# EAGLE library part MC68000P (library untitled)
Low Cost 32-Bit Microprocessor Including EC, HC, and SEC
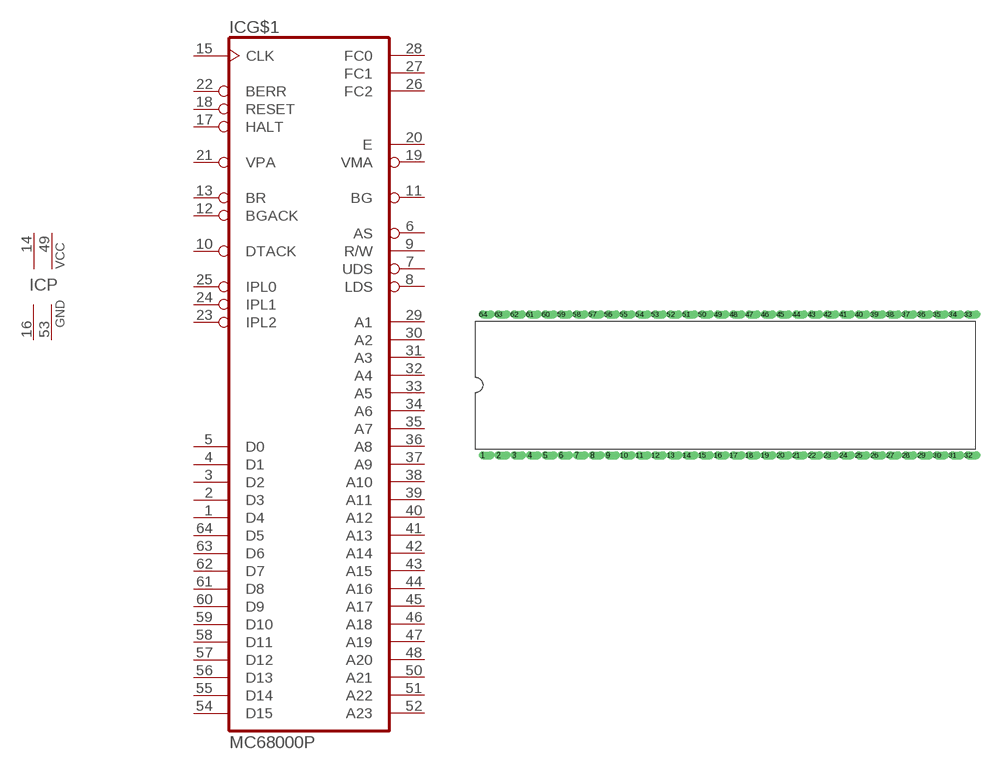
[diagram p1: symbol with the pads of DIL64; footprint DIL64]

Designator prefix IC; gates G$1=68000 P=2PWR2GND

## MC68000P  [DIL64]
1  G$1:D4
2  G$1:D3
3  G$1:D2
4  G$1:D1
5  G$1:D0
6  G$1:AS  out
7  G$1:UDS  out
8  G$1:LDS  out
9  G$1:R/W  out
10  G$1:DTACK  in
11  G$1:BG  out
12  G$1:BGACK  in
13  G$1:BR  in
14  P:VCC  pwr
15  G$1:CLK  in
16  P:GND  pwr
17  G$1:HALT
18  G$1:RESET
19  G$1:VMA  out
20  G$1:E  out
21  G$1:VPA  in
22  G$1:BERR  in
23  G$1:IPL2  in
24  G$1:IPL1  in
25  G$1:IPL0  in
26  G$1:FC2  out
27  G$1:FC1  out
28  G$1:FC0  out
29  G$1:A1  out
30  G$1:A2  out
31  G$1:A3  out
32  G$1:A4  out
33  G$1:A5  out
34  G$1:A6  out
35  G$1:A7  out
36  G$1:A8  out
37  G$1:A9  out
38  G$1:A10  out
39  G$1:A11  out
40  G$1:A12  out
41  G$1:A13  out
42  G$1:A14  out
43  G$1:A15  out
44  G$1:A16  out
45  G$1:A17  out
46  G$1:A18  out
47  G$1:A19  out
48  G$1:A20  out
49  P:VCC  pwr
50  G$1:A21  out
51  G$1:A22  out
52  G$1:A23  out
53  P:GND  pwr
54  G$1:D15
55  G$1:D14
56  G$1:D13
57  G$1:D12
58  G$1:D11
59  G$1:D10
60  G$1:D9
61  G$1:D8
62  G$1:D7
63  G$1:D6
64  G$1:D5

## Footprint DIL64 (pad centres in mm)
drill 0.813 offset: 1 -39.37,-11.43; 2 -36.83,-11.43; 3 -34.29,-11.43; 4 -31.75,-11.43; 5 -29.21,-11.43; 6 -26.67,-11.43; 7 -24.13,-11.43; 8 -21.59,-11.43; 9 -19.05,-11.43; 10 -16.51,-11.43; 11 -13.97,-11.43; 12 -11.43,-11.43; 13 -8.89,-11.43; 14 -6.35,-11.43; 15 -3.81,-11.43; 16 -1.27,-11.43; 17 1.27,-11.43; 18 3.81,-11.43; 19 6.35,-11.43; 20 8.89,-11.43; 21 11.43,-11.43; 22 13.97,-11.43; 23 16.51,-11.43; 24 19.05,-11.43; 25 21.59,-11.43; 26 24.13,-11.43; 27 26.67,-11.43; 28 29.21,-11.43; 29 31.75,-11.43; 30 34.29,-11.43; 31 36.83,-11.43; 32 39.37,-11.43; 33 39.37,11.43; 34 36.83,11.43; 35 34.29,11.43; 36 31.75,11.43; 37 29.21,11.43; 38 26.67,11.43; 39 24.13,11.43; 40 21.59,11.43; 41 19.05,11.43; 42 16.51,11.43; 43 13.97,11.43; 44 11.43,11.43; 45 8.89,11.43; 46 6.35,11.43; 47 3.81,11.43; 48 1.27,11.43; 49 -1.27,11.43; 50 -3.81,11.43; 51 -6.35,11.43; 52 -8.89,11.43; 53 -11.43,11.43; 54 -13.97,11.43; 55 -16.51,11.43; 56 -19.05,11.43; 57 -21.59,11.43; 58 -24.13,11.43; 59 -26.67,11.43; 60 -29.21,11.43; 61 -31.75,11.43; 62 -34.29,11.43; 63 -36.83,11.43; 64 -39.37,11.43